# EAGLE library part WE-RJ45_7499210123A (library WE-RJ45_LAN)
WE-RJ45 LAN Transformer Characteristics RJ45 Connector with integrated transformer / common mode choke Power over Ethernet up to 50 Watt and speeds up to 10 Gbit/s Available in SMD, THT and THT with USB Compliant with standards: IEEE 802.3u, IEEE 802.3ab, IEEE 802.3af, IEEE 802.3at, IEEE 802.3an and upcoming IEE 802.3bt Applications Suitable for industrial temperatures from –40 °C up to +85 °C Compatible to Industrial Ethernet systems like EtherCAT or Profinet Compliant with most IC’s for Ethernet applications such as Microchip, Texas Instruments, Broadcom, Linear Technology Hubs, Routers, Switches, IP cameras, IoT applications Details see: www.we-online.com/components/products/WE-LAN-RJ45 Updated by Ella Wu 2024-09-20 2024 (C) Würth Elektronik
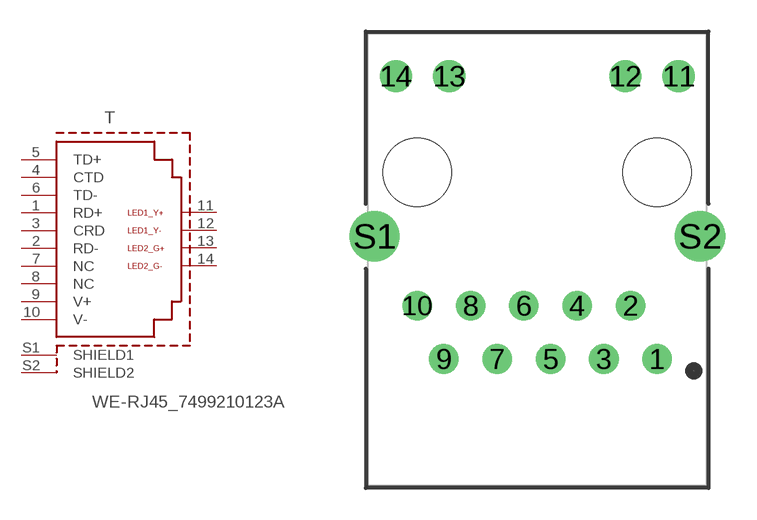
[diagram p28: symbol with the pads of 7499210123A; footprint 7499210123A]

Designator prefix T

## WE-RJ45_7499210123A (DATA-RATE: 100BASE-TX; DATASHEET: https://www.we-online.com/redexpert/spec/7499210123A?ae; IMPROVED-CMRR: No; LED: green-yellow; MOUNT: THT; OPERATING-TEMPERATURE: -40 °C up to +85 °C; PART-NUMBER: 7499210123A; PHY-CHIP-MODE: current & voltage; POE: PoE (up to 350 mA); PORTS: 1x1; SHIELD-TABS: No; TAB: Vertical; USB: No; VALUE: 7499210123A)  [7499210123A]
1  RD+  pas
2  RD-  pas
3  CRD  pas
4  CTD  pas
5  TD+  pas
6  TD-  pas
7  NC  pas
8  NC  pas
9  V+  pas
10  V-  pas
11  LED1_Y+  pas
12  LED1_Y-  pas
13  LED2_G+  pas
14  LED2_G-  pas
S1  SHIELD1  pas
S2  SHIELD2  pas

## Footprint 7499210123A (pad centres in mm)
WE-RJ45 LAN Transformer 100BASE-TX, Ports:1x1, Tab:Vertical
drill 0.9: 1 5.715,-8.89; 2 4.445,-6.35; 3 3.175,-8.89; 4 1.905,-6.35; 5 0.635,-8.89; 6 -0.635,-6.35; 7 -1.905,-8.89; 8 -3.175,-6.35; 9 -4.445,-8.89; 10 -5.715,-6.35
drill 1.02: 11 6.73,4.57; 12 4.19,4.57; 13 -4.19,4.57; 14 -6.73,4.57
drill 1.6: S1 -7.745,-3.05; S2 7.745,-3.05
hole 3.25 at 5.715,0
hole 3.25 at -5.715,0